# Altium integrated library LPC.IntLib: 5 symbols
Pins are listed as number, name and electrical type; pins without a type are passive.

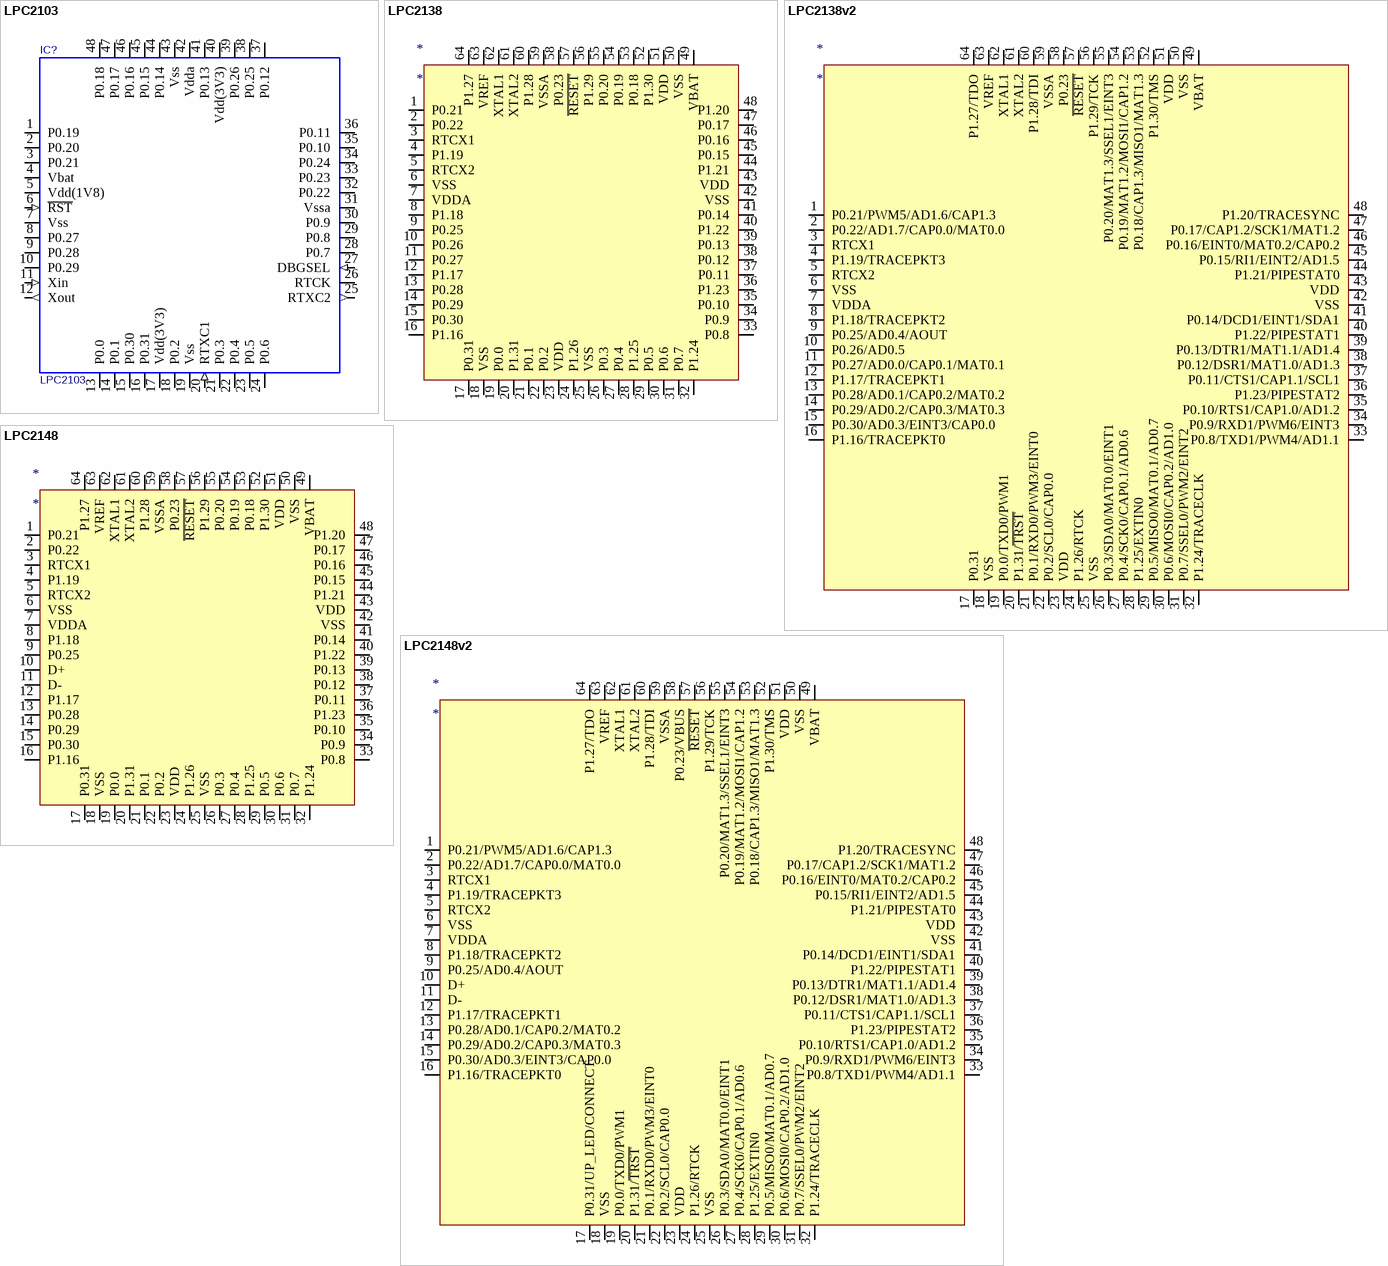
[diagram p0: symbols LPC2103 to LPC2148v2]

## LPC2103
designator IC?
Value: *
footprint TQFP48 (TSQFP, 48-Leads, Body 9,1x9,1mm (max), Pitch 0,50mm, IPC Medium Density)
pins: 1 P0.19 (io), 2 P0.20 (io), 3 P0.21 (io), 4 Vbat (power), 5 Vdd(1V8) (power), 6 ~{RST} (in), 7 Vss (power), 8 P0.27 (io), 9 P0.28 (io), 10 P0.29 (io), 11 Xin (in), 12 Xout (out), 13 P0.0 (io), 14 P0.1 (io), 15 P0.30 (io), 16 P0.31 (io), 17 Vdd(3V3) (power), 18 P0.2 (io), 19 Vss (power), 20 RTXC1 (in), 21 P0.3 (io), 22 P0.4 (io), 23 P0.5 (io), 24 P0.6 (io), 25 RTXC2 (out), 26 RTCK (io), 27 DBGSEL (in), 28 P0.7 (io), 29 P0.8 (io), 30 P0.9 (io), 31 Vssa (power), 32 P0.22 (io), 33 P0.23 (io), 34 P0.24 (io), 35 P0.10 (io), 36 P0.11 (io), 37 P0.12 (io), 38 P0.25 (io), 39 P0.26 (io), 40 Vdd(3V3) (power), 41 P0.13 (io), 42 Vdda (power), 43 Vss (power), 44 P0.14 (io), 45 P0.15 (io), 46 P0.16 (io), 47 P0.17 (io), 48 P0.18 (io)

## LPC2138
designator *
Arm7 processor by NXP
footprint TQFP64 (TSQFP, 64-Leads, Body 12,1x12,1mm (max), Pitch 0,50mm, IPC Medium Density)
pins: 1 P0.21, 2 P0.22, 3 RTCX1, 4 P1.19, 5 RTCX2, 6 VSS, 7 VDDA, 8 P1.18, 9 P0.25, 10 P0.26, 11 P0.27, 12 P1.17, 13 P0.28, 14 P0.29, 15 P0.30, 16 P1.16, 17 P0.31, 18 VSS, 19 P0.0, 20 P1.31, 21 P0.1, 22 P0.2, 23 VDD, 24 P1.26, 25 VSS, 26 P0.3, 27 P0.4, 28 P1.25, 29 P0.5, 30 P0.6, 31 P0.7, 32 P1.24, 33 P0.8, 34 P0.9, 35 P0.10, 36 P1.23, 37 P0.11, 38 P0.12, 39 P0.13, 40 P1.22, 41 P0.14, 42 VSS, 43 VDD, 44 P1.21, 45 P0.15, 46 P0.16, 47 P0.17, 48 P1.20, 49 VBAT, 50 VSS, 51 VDD, 52 P1.30, 53 P0.18, 54 P0.19, 55 P0.20, 56 P1.29, 57 ~{RESET}, 58 P0.23, 59 VSSA, 60 P1.28, 61 XTAL2, 62 XTAL1, 63 VREF, 64 P1.27

## LPC2138v2
designator *
Arm7 processor by NXP with all pin function names
footprint TQFP64 (TSQFP, 64-Leads, Body 12,1x12,1mm (max), Pitch 0,50mm, IPC Medium Density)
pins: 1 P0.21/PWM5/AD1.6/CAP1.3, 2 P0.22/AD1.7/CAP0.0/MAT0.0, 3 RTCX1, 4 P1.19/TRACEPKT3, 5 RTCX2, 6 VSS, 7 VDDA, 8 P1.18/TRACEPKT2, 9 P0.25/AD0.4/AOUT, 10 P0.26/AD0.5, 11 P0.27/AD0.0/CAP0.1/MAT0.1, 12 P1.17/TRACEPKT1, 13 P0.28/AD0.1/CAP0.2/MAT0.2, 14 P0.29/AD0.2/CAP0.3/MAT0.3, 15 P0.30/AD0.3/EINT3/CAP0.0, 16 P1.16/TRACEPKT0, 17 P0.31, 18 VSS, 19 P0.0/TXD0/PWM1, 20 P1.31/~{TRST}, 21 P0.1/RXD0/PWM3/EINT0, 22 P0.2/SCL0/CAP0.0, 23 VDD, 24 P1.26/RTCK, 25 VSS, 26 P0.3/SDA0/MAT0.0/EINT1, 27 P0.4/SCK0/CAP0.1/AD0.6, 28 P1.25/EXTIN0, 29 P0.5/MISO0/MAT0.1/AD0.7, 30 P0.6/MOSI0/CAP0.2/AD1.0, 31 P0.7/SSEL0/PWM2/EINT2, 32 P1.24/TRACECLK, 33 P0.8/TXD1/PWM4/AD1.1, 34 P0.9/RXD1/PWM6/EINT3, 35 P0.10/RTS1/CAP1.0/AD1.2, 36 P1.23/PIPESTAT2, 37 P0.11/CTS1/CAP1.1/SCL1, 38 P0.12/DSR1/MAT1.0/AD1.3, 39 P0.13/DTR1/MAT1.1/AD1.4, 40 P1.22/PIPESTAT1, 41 P0.14/DCD1/EINT1/SDA1, 42 VSS, 43 VDD, 44 P1.21/PIPESTAT0, 45 P0.15/RI1/EINT2/AD1.5, 46 P0.16/EINT0/MAT0.2/CAP0.2, 47 P0.17/CAP1.2/SCK1/MAT1.2, 48 P1.20/TRACESYNC, 49 VBAT, 50 VSS, 51 VDD, 52 P1.30/TMS, 53 P0.18/CAP1.3/MISO1/MAT1.3, 54 P0.19/MAT1.2/MOSI1/CAP1.2, 55 P0.20/MAT1.3/SSEL1/EINT3, 56 P1.29/TCK, 57 ~{RESET}, 58 P0.23, 59 VSSA, 60 P1.28/TDI, 61 XTAL2, 62 XTAL1, 63 VREF, 64 P1.27/TDO

## LPC2148
designator *
Arm7 processor by NXP
footprint TQFP64 (TSQFP, 64-Leads, Body 12,1x12,1mm (max), Pitch 0,50mm, IPC Medium Density)
pins: 1 P0.21, 2 P0.22, 3 RTCX1, 4 P1.19, 5 RTCX2, 6 VSS, 7 VDDA, 8 P1.18, 9 P0.25, 10 D+, 11 D-, 12 P1.17, 13 P0.28, 14 P0.29, 15 P0.30, 16 P1.16, 17 P0.31, 18 VSS, 19 P0.0, 20 P1.31, 21 P0.1, 22 P0.2, 23 VDD, 24 P1.26, 25 VSS, 26 P0.3, 27 P0.4, 28 P1.25, 29 P0.5, 30 P0.6, 31 P0.7, 32 P1.24, 33 P0.8, 34 P0.9, 35 P0.10, 36 P1.23, 37 P0.11, 38 P0.12, 39 P0.13, 40 P1.22, 41 P0.14, 42 VSS, 43 VDD, 44 P1.21, 45 P0.15, 46 P0.16, 47 P0.17, 48 P1.20, 49 VBAT, 50 VSS, 51 VDD, 52 P1.30, 53 P0.18, 54 P0.19, 55 P0.20, 56 P1.29, 57 ~{RESET}, 58 P0.23, 59 VSSA, 60 P1.28, 61 XTAL2, 62 XTAL1, 63 VREF, 64 P1.27

## LPC2148v2
designator *
Arm7 processor by NXP with all pin function names
footprint TQFP64 (TSQFP, 64-Leads, Body 12,1x12,1mm (max), Pitch 0,50mm, IPC Medium Density)
pins: 1 P0.21/PWM5/AD1.6/CAP1.3, 2 P0.22/AD1.7/CAP0.0/MAT0.0, 3 RTCX1, 4 P1.19/TRACEPKT3, 5 RTCX2, 6 VSS, 7 VDDA, 8 P1.18/TRACEPKT2, 9 P0.25/AD0.4/AOUT, 10 D+, 11 D-, 12 P1.17/TRACEPKT1, 13 P0.28/AD0.1/CAP0.2/MAT0.2, 14 P0.29/AD0.2/CAP0.3/MAT0.3, 15 P0.30/AD0.3/EINT3/CAP0.0, 16 P1.16/TRACEPKT0, 17 P0.31/UP_LED/CONNECT, 18 VSS, 19 P0.0/TXD0/PWM1, 20 P1.31/~{TRST}, 21 P0.1/RXD0/PWM3/EINT0, 22 P0.2/SCL0/CAP0.0, 23 VDD, 24 P1.26/RTCK, 25 VSS, 26 P0.3/SDA0/MAT0.0/EINT1, 27 P0.4/SCK0/CAP0.1/AD0.6, 28 P1.25/EXTIN0, 29 P0.5/MISO0/MAT0.1/AD0.7, 30 P0.6/MOSI0/CAP0.2/AD1.0, 31 P0.7/SSEL0/PWM2/EINT2, 32 P1.24/TRACECLK, 33 P0.8/TXD1/PWM4/AD1.1, 34 P0.9/RXD1/PWM6/EINT3, 35 P0.10/RTS1/CAP1.0/AD1.2, 36 P1.23/PIPESTAT2, 37 P0.11/CTS1/CAP1.1/SCL1, 38 P0.12/DSR1/MAT1.0/AD1.3, 39 P0.13/DTR1/MAT1.1/AD1.4, 40 P1.22/PIPESTAT1, 41 P0.14/DCD1/EINT1/SDA1, 42 VSS, 43 VDD, 44 P1.21/PIPESTAT0, 45 P0.15/RI1/EINT2/AD1.5, 46 P0.16/EINT0/MAT0.2/CAP0.2, 47 P0.17/CAP1.2/SCK1/MAT1.2, 48 P1.20/TRACESYNC, 49 VBAT, 50 VSS, 51 VDD, 52 P1.30/TMS, 53 P0.18/CAP1.3/MISO1/MAT1.3, 54 P0.19/MAT1.2/MOSI1/CAP1.2, 55 P0.20/MAT1.3/SSEL1/EINT3, 56 P1.29/TCK, 57 ~{RESET}, 58 P0.23/VBUS, 59 VSSA, 60 P1.28/TDI, 61 XTAL2, 62 XTAL1, 63 VREF, 64 P1.27/TDO